# Altium footprint library LCD.PcbLib: 5 footprints
Each footprint in its own frame and in the unit in brackets; x right, y up, seen from the top. Pads: shape width x height; smd on the part's side, far side on the other; paste and mask are expansions set on the pad; w line width, h text height; cw(c..) or ccw(c..) is an arc to the next point about the centre after c.
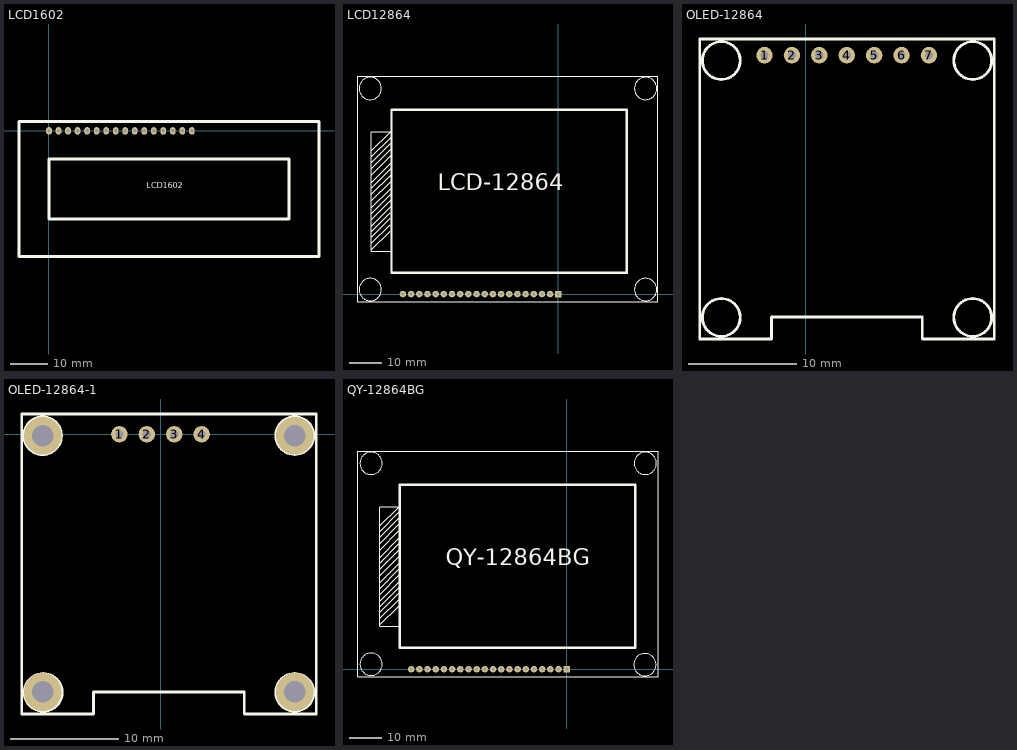
[diagram p0: the footprints below, top view; thin cyan lines are the x and y axes]

## LCD1602 [mil]
pads (16):
  oval 60x80 hole 35.43: 1(0,0) 2(100,0) 3(200,0) 4(300,0) 5(400,0) 6(500,0) 7(600,0) 8(700,0) 9(800,0) 10(900,0) 11(1000,0) 12(1100,0) 13(1200,0) 14(1300,0) 15(1400,0) 16(1500,0)
Top Overlay:
  lines w30: -314.96,-1318.9 2834.65,-1318.9 2834.65,98.43 -314.96,98.43 -314.96,-1318.9 ; 0,-925.2 2519.69,-925.2 2519.69,-295.28 0,-295.28 0,-925.2
  text "LCD1602" at 1025.04,-601.57 h60
3D body "SW3dPS-LCD module 16 X 2 backlight.STEP": height 414, standoff -106, extent -315,-1357.01 2854.29,80

## LCD12864 [mil]
pads (20):
  rect 80x80 hole 35.43: 1(0,0)
  round 80 hole 35.43: 2(-100,0) 3(-200,0) 4(-300,0) 5(-400,0) 6(-500,0) 7(-600,0) 8(-700,0) 9(-800,0) 10(-900,0) 11(-1000,0) 12(-1100,0) 13(-1200,0) 14(-1300,0) 15(-1400,0) 16(-1500,0) 17(-1600,0) 18(-1700,0) 19(-1800,0) 20(-1900,0)
Top Overlay:
  circle w10: c-2300,55 r136.47
  circle w10: c1067.93,55 r136.47
  circle w10: c1068.53,2515 r136.47
  circle w10: c-2300,2515 r136.47
  lines w10: -2285,540 -2055,770 ; -2285,620 -2055,850 ; -2285,695 -2055,925 ; -2285,765 -2055,995 ; -2285,1750 -2055,1980 ; -2280,835 -2050,1065 ; -2280,915 -2050,1145 ; -2280,990 -2050,1220 ; -2280,1060 -2050,1290 ; -2280,1145 -2050,1375 ; -2280,1225 -2050,1455 ; -2280,1300 -2050,1530 ; -2280,1370 -2050,1600 ; -2280,1460 -2050,1690 ; -2280,1540 -2050,1770 ; -2280,1615 -2050,1845 ; -2280,1685 -2050,1915 ; -2040,525 -2285,525 -2285,1980 -2280,1985 -2035,1985 ; -1850,-95 -2450,-95 ; -2450,-95 1220,-95 1220,2665 -2450,2665 -2450,-95
  lines w30: -2040,260 -2040,2255 835,2255 835,260 -2040,260
  text "LCD-12864" at -1475,1270 h200
3D body "User Library-QC12864B.STEP": height 374.02, standoff -314.96, extent -2440,-95.9 1221.42,2660

## OLED-12864 [mil] "SPI接口"
pads (7):
  round 60 hole 30: 1(-150,1260) 2(-50,1260) 3(50,1260) 4(150,1260) 5(250,1260) 6(350,1260) 7(450,1260)
Top Overlay:
  circle w10: c-307.72,1240.31 r68.9
  circle w10: c-307.72,303.31 r68.9
  circle w10: c609.61,303.31 r68.9
  circle w10: c609.61,1240.31 r68.9
  lines w10: -386.46,224.57 -386.46,1319.06 688.35,1319.06 688.35,224.57 426.54,224.57 425.35,225.75 425.35,304.57 -124.65,304.57 -124.65,224.57 -386.46,224.57
3D body "User Library-096OLED.STEP": height 24.42, standoff -126.58, extent -375.6,313.28 675.59,1187.95

## OLED-12864-1 [mil] "I2C接口"
pads (4):
  round 60 hole 30: 1(-150,0) 2(-50,0) 3(50,0) 4(150,0)
via -430,-5 diameter 137.8 hole 78.74
via 490,-5 diameter 137.8 hole 78.74
via 490,-940 diameter 137.8 hole 78.74
via -430,-940 diameter 137.8 hole 78.74
Top Overlay:
  circle w10: c-427.72,-941.69 r68.9
  circle w10: c489.61,-941.69 r68.9
  circle w10: c489.61,-4.69 r68.9
  circle w10: c-430,-5 r68.9
  lines w10: -506.46,-1020.43 -506.46,74.06 568.35,74.06 568.35,-1020.43 306.54,-1020.43 305.35,-1019.25 305.35,-940.43 -244.65,-940.43 -244.65,-1020.43 -506.46,-1020.43
3D body "User Library-096OLED.STEP": height 24.42, standoff -126.58, extent -495.6,-931.72 555.59,-57.05

## QY-12864BG [mil]
pads (20):
  rect 80x80 hole 35.43: 1(0,0)
  round 80 hole 35.43: 2(-100,0) 3(-200,0) 4(-300,0) 5(-400,0) 6(-500,0) 7(-600,0) 8(-700,0) 9(-800,0) 10(-900,0) 11(-1000,0) 12(-1100,0) 13(-1200,0) 14(-1300,0) 15(-1400,0) 16(-1500,0) 17(-1600,0) 18(-1700,0) 19(-1800,0) 20(-1900,0)
Top Overlay:
  circle w10: c-2390,2515 r136.47
  circle w10: c960,2515 r136.47
  circle w10: c955,55 r136.47
  circle w10: c-2390,60 r136.47
  lines w10: -2450,-95 1115,-95 1115,2665 -2550,2665 -2550,-95 -1850,-95 ; -2285,540 -2055,770 ; -2285,620 -2055,850 ; -2285,695 -2055,925 ; -2285,765 -2055,995 ; -2285,1750 -2055,1980 ; -2280,835 -2050,1065 ; -2280,915 -2050,1145 ; -2280,990 -2050,1220 ; -2280,1060 -2050,1290 ; -2280,1145 -2050,1375 ; -2280,1225 -2050,1455 ; -2280,1300 -2050,1530 ; -2280,1370 -2050,1600 ; -2280,1460 -2050,1690 ; -2280,1540 -2050,1770 ; -2280,1615 -2050,1845 ; -2280,1685 -2050,1915 ; -2040,525 -2285,525 -2285,1980 -2280,1985 -2035,1985
  lines w30: -2040,260 835,260 835,2255 -2040,2255 -2040,260
  text "QY-12864BG" at -1475,1270 h200
3D body "User Library-WG12864A-1.STEP": height 417.32, standoff -118.11, extent -2550.7,-95 1110.71,2660.91